# Altium footprint library F4SDR.PcbLib: 69 footprints (part 3 of 5)
Each footprint in its own frame and in the unit in brackets; x right, y up, seen from the top. Pads: shape width x height; smd on the part's side, far side on the other; paste and mask are expansions set on the pad; w line width, h text height; cw(c..) or ccw(c..) is an arc to the next point about the centre after c.
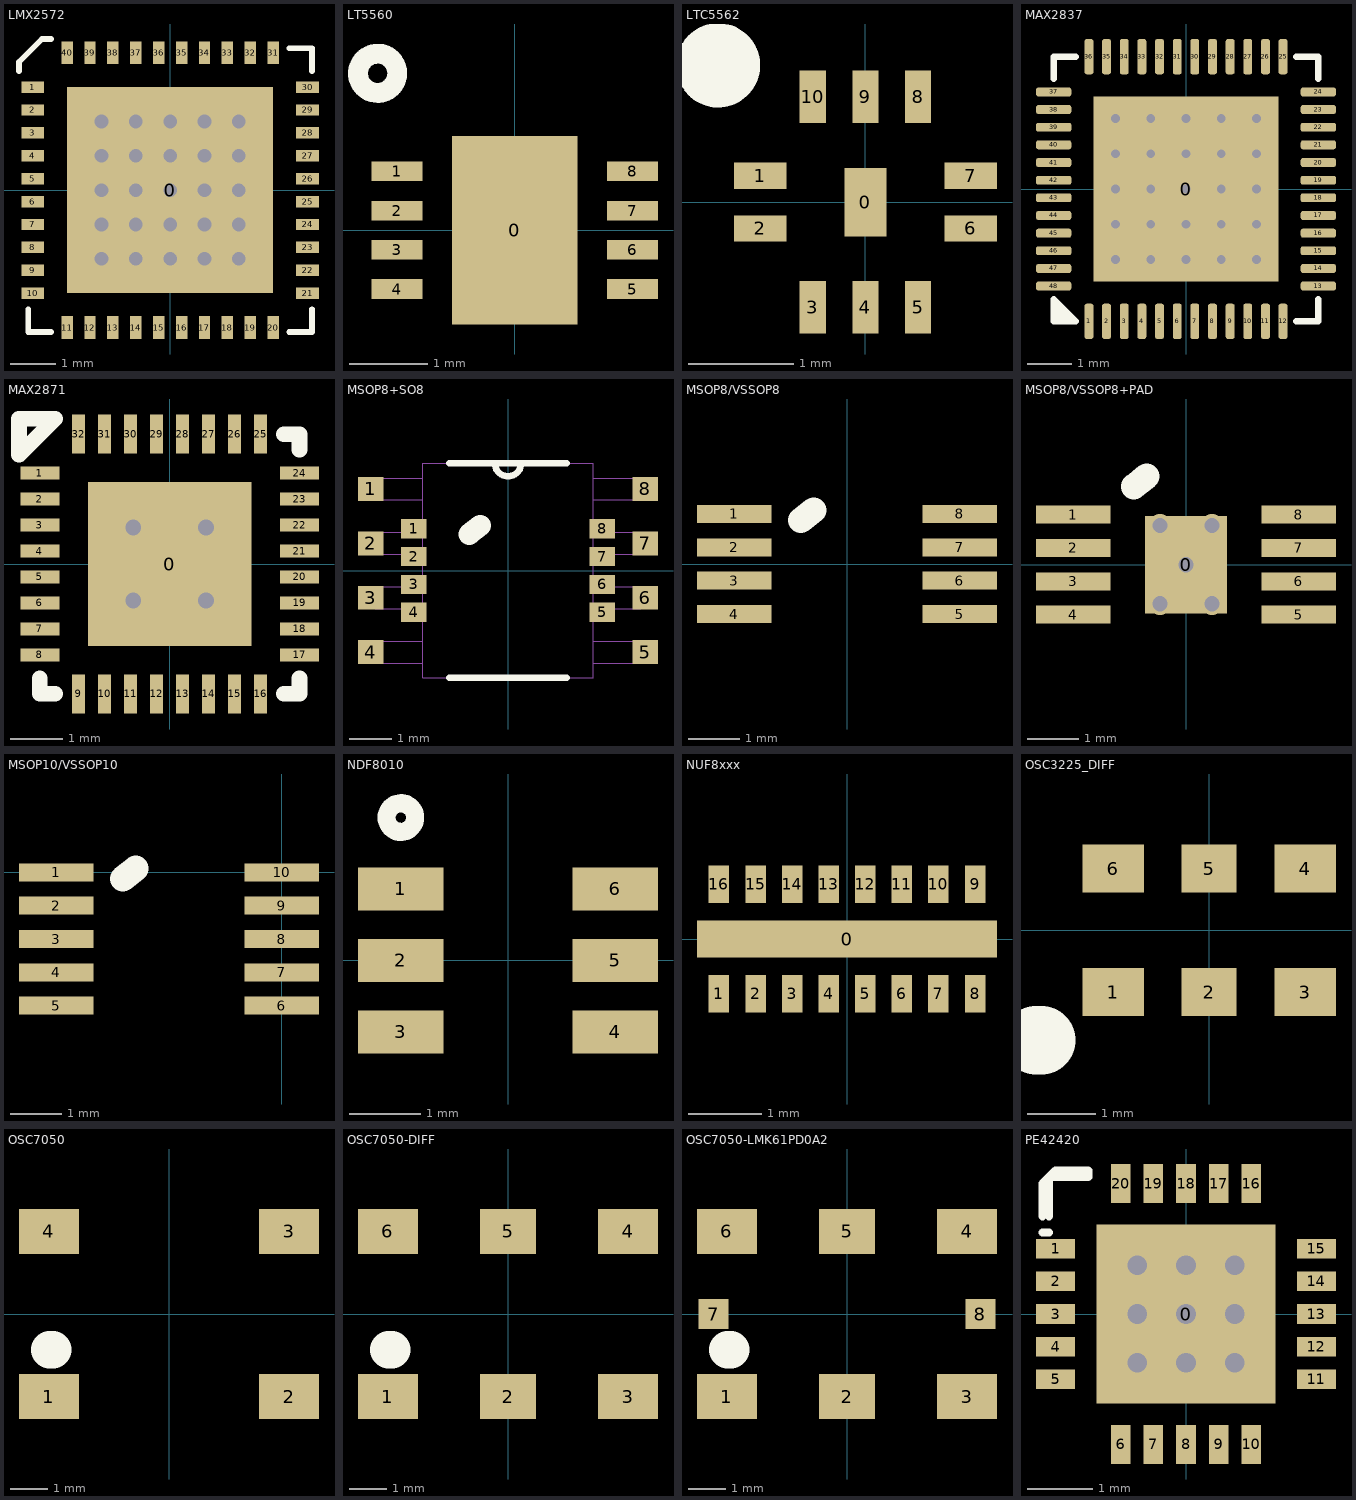
[diagram p2: the footprints below, top view; thin cyan lines are the x and y axes]

## LMX2572 [mm]
pads (41):
  rect 4.5x4.5 smd: 0(0,0)
  rect 0.5x0.25 smd: 1(-3,2.25) 2(-3,1.75) 3(-3,1.25) 4(-3,0.75) 5(-3,0.25) 6(-3,-0.25) 7(-3,-0.75) 8(-3,-1.25) 9(-3,-1.75) 10(-3,-2.25) 21(3,-2.25) 22(3,-1.75) 23(3,-1.25) 24(3,-0.75) 25(3,-0.25) 26(3,0.25) 27(3,0.75) 28(3,1.25) 29(3,1.75) 30(3,2.25)
  rect 0.25x0.5 smd: 11(-2.25,-3) 12(-1.75,-3) 13(-1.25,-3) 14(-0.75,-3) 15(-0.25,-3) 16(0.25,-3) 17(0.75,-3) 18(1.25,-3) 19(1.75,-3) 20(2.25,-3) 31(2.25,3) 32(1.75,3) 33(1.25,3) 34(0.75,3) 35(0.25,3) 36(-0.25,3) 37(-0.75,3) 38(-1.25,3) 39(-1.75,3) 40(-2.25,3)
via 0,0 diameter 0.5 hole 0.3
via 0,0.75 diameter 0.5 hole 0.3
via 0,1.5 diameter 0.5 hole 0.3
via 0.75,0 diameter 0.5 hole 0.3
via 0.75,0.75 diameter 0.5 hole 0.3
via 0.75,1.5 diameter 0.5 hole 0.3
via 1.5,1.5 diameter 0.5 hole 0.3
via 1.5,0.75 diameter 0.5 hole 0.3
via 1.5,0 diameter 0.5 hole 0.3
via 0,-0.75 diameter 0.5 hole 0.3
via 0,-1.5 diameter 0.5 hole 0.3
via -1.5,-1.5 diameter 0.5 hole 0.3
via -1.5,0 diameter 0.5 hole 0.3
via -1.5,1.5 diameter 0.5 hole 0.3
via 1.5,-1.5 diameter 0.5 hole 0.3
via 0.75,-1.5 diameter 0.5 hole 0.3
via 0.75,-0.75 diameter 0.5 hole 0.3
via 1.5,-0.75 diameter 0.5 hole 0.3
via -1.5,-0.75 diameter 0.5 hole 0.3
via -0.75,-0.75 diameter 0.5 hole 0.3
via -0.75,-1.5 diameter 0.5 hole 0.3
via -0.75,0 diameter 0.5 hole 0.3
via -0.75,0.75 diameter 0.5 hole 0.3
via -1.5,0.75 diameter 0.5 hole 0.3
via -0.75,1.5 diameter 0.5 hole 0.3
Top Overlay:
  lines w0.127: -3.3,2.6 -3.3,2.8 -2.8,3.3 -2.6,3.3 ; -3.1,-2.6 -3.1,-3.1 -2.6,-3.1 ; 2.6,-3.1 3.1,-3.1 3.1,-2.6 ; 2.6,3.1 3.1,3.1 3.1,2.6
3D body: height 1, standoff 0, extent -3,-3 3,3

## LT5560 [mm]
pads (9):
  rect 1.6x2.4 smd: 0(0,0)
  rect 0.65x0.25 smd: 1(-1.5,0.75) 2(-1.5,0.25) 3(-1.5,-0.25) 4(-1.5,-0.75) 5(1.5,-0.75) 6(1.5,-0.25) 7(1.5,0.25) 8(1.5,0.75)
Top Overlay:
  circle w0.254: c-1.75,2 r0.25
3D body: height 0.75, standoff 0, extent -1.5,-1.5 1.5,1.5

## LTC5562 [mm]
pads (11):
  rect 0.4x0.65 smd: 0(0,0)
  rect 0.5x0.25 smd: 1(-1,0.25) 2(-1,-0.25) 6(1,-0.25) 7(1,0.25)
  rect 0.25x0.5 smd: 3(-0.5,-1) 4(0,-1) 5(0.5,-1) 8(0.5,1) 9(0,1) 10(-0.5,1)
Top Overlay:
  circle w0.4: c-1.4,1.3 r0.2
3D body: height 0.75, standoff 0, extent -1,-1 1,1

## MAX2837 [mm]
pads (49):
  rect 4.2x4.2 smd: 0(0,0)
  rrect50% 0.2x0.8 smd: 1(-2.2,-3) 2(-1.8,-3) 3(-1.4,-3) 4(-1,-3) 5(-0.6,-3) 6(-0.2,-3) 7(0.2,-3) 8(0.6,-3) 9(1,-3) 10(1.4,-3) 11(1.8,-3) 12(2.2,-3) 25(2.2,3) 26(1.8,3) 27(1.4,3) 28(1,3) 29(0.6,3) 30(0.2,3) 31(-0.2,3) 32(-0.6,3) 33(-1,3) 34(-1.4,3) 35(-1.8,3) 36(-2.2,3)
  rrect50% 0.8x0.2 smd: 13(3,-2.2) 14(3,-1.8) 15(3,-1.4) 16(3,-1) 17(3,-0.6) 18(3,-0.2) 19(3,0.2) 20(3,0.6) 21(3,1) 22(3,1.4) 23(3,1.8) 24(3,2.2) 37(-3,2.2) 38(-3,1.8) 39(-3,1.4) 40(-3,1) 41(-3,0.6) 42(-3,0.2) 43(-3,-0.2) 44(-3,-0.6) 45(-3,-1) 46(-3,-1.4) 47(-3,-1.8) 48(-3,-2.2)
via 0,0 diameter 0.35 hole 0.2
via 0.8,0 diameter 0.35 hole 0.2
via 1.6,0 diameter 0.35 hole 0.2
via 1.6,-0.8 diameter 0.35 hole 0.2
via 0.8,-0.8 diameter 0.35 hole 0.2
via 0,-0.8 diameter 0.35 hole 0.2
via 0,-1.6 diameter 0.35 hole 0.2
via 0.8,-1.6 diameter 0.35 hole 0.2
via 1.6,-1.6 diameter 0.35 hole 0.2
via -0.8,-1.6 diameter 0.35 hole 0.2
via -1.6,-1.6 diameter 0.35 hole 0.2
via -1.6,-0.8 diameter 0.35 hole 0.2
via -0.8,-0.8 diameter 0.35 hole 0.2
via -0.8,0 diameter 0.35 hole 0.2
via -1.6,0 diameter 0.35 hole 0.2
via -1.6,0.8 diameter 0.35 hole 0.2
via -0.8,0.8 diameter 0.35 hole 0.2
via 0,0.8 diameter 0.35 hole 0.2
via 0.8,0.8 diameter 0.35 hole 0.2
via 1.6,0.8 diameter 0.35 hole 0.2
via 0.8,1.6 diameter 0.35 hole 0.2
via 0,1.6 diameter 0.35 hole 0.2
via -0.8,1.6 diameter 0.35 hole 0.2
via -1.6,1.6 diameter 0.35 hole 0.2
via 1.6,1.6 diameter 0.35 hole 0.2
Top Overlay:
  lines w0.152: -3,2.5 -3,3 -2.5,3 ; -2.9,-2.9 -2.9,-2.6 ; -2.75,-3 -2.75,-2.75 ; 2.5,-3 3,-3 3,-2.5 ; 2.5,3 3,3 3,2.5 ; -3,-3 -2.5,-3 -3,-2.5 -3,-3
3D body: height 0.75, standoff 0, extent -3,-3 3,3

## MAX2871 [mm]
pads (33):
  rect 3.15x3.15 smd: 0(0,0)
  rect 0.75x0.25 smd: 1(-2.5,1.75) 2(-2.5,1.25) 3(-2.5,0.75) 4(-2.5,0.25) 5(-2.5,-0.25) 6(-2.5,-0.75) 7(-2.5,-1.25) 8(-2.5,-1.75) 17(2.5,-1.75) 18(2.5,-1.25) 19(2.5,-0.75) 20(2.5,-0.25) 21(2.5,0.25) 22(2.5,0.75) 23(2.5,1.25) 24(2.5,1.75)
  rect 0.25x0.75 smd: 9(-1.75,-2.5) 10(-1.25,-2.5) 11(-0.75,-2.5) 12(-0.25,-2.5) 13(0.25,-2.5) 14(0.75,-2.5) 15(1.25,-2.5) 16(1.75,-2.5) 25(1.75,2.5) 26(1.25,2.5) 27(0.75,2.5) 28(0.25,2.5) 29(-0.25,2.5) 30(-0.75,2.5) 31(-1.25,2.5) 32(-1.75,2.5)
via -0.7,0.7 diameter 0.508 hole 0.305
via 0.7,0.7 diameter 0.508 hole 0.305
via 0.7,-0.7 diameter 0.508 hole 0.305
via -0.7,-0.7 diameter 0.508 hole 0.305
Top Overlay:
  lines w0.3: -2.5,-2.2 -2.5,-2.5 -2.2,-2.5 ; 2.2,-2.5 2.5,-2.5 2.5,-2.2 ; 2.2,2.5 2.5,2.5 2.5,2.2 ; -2.9,2.1 -2.2,2.8 -2.9,2.8 -2.9,2.1
3D body: height 0.7, standoff 0, extent -2.5,-2.5 2.5,2.5

## MSOP8+SO8 [mm]
height 1
pads (16):
  rect 0.6x0.559 smd: 1(-3.2,1.905) 2(-3.2,0.635) 3(-3.2,-0.635) 4(-3.2,-1.905) 5(3.2,-1.905) 6(3.2,-0.635) 7(3.2,0.635) 8(3.2,1.905)
  rect 0.6x0.45 smd: 1(-2.2,0.975) 2(-2.2,0.325) 3(-2.2,-0.325) 4(-2.2,-0.975) 5(2.2,-0.975) 6(2.2,-0.325) 7(2.2,0.325) 8(2.2,0.975)
Top Overlay:
  lines w0.152: -1.374,-2.502 1.374,-2.502 ; -1.374,2.502 1.374,2.502 ; -0.305,2.502 ccw(c0,2.502) 0.305,2.502
  lines w0.5: -0.9,0.85 -0.65,1.05
Mechanical 1:
  lines w0: -0.305,2.502 ccw(c0,2.502) 0.305,2.502 ; -3.099,-2.159 -1.994,-2.159 -1.994,-1.651 -3.099,-1.651 -3.099,-2.159 ; -3.099,-0.889 -1.994,-0.889 -1.994,-0.381 -3.099,-0.381 -3.099,-0.889 ; -3.099,0.381 -1.994,0.381 -1.994,0.889 -3.099,0.889 -3.099,0.381 ; -3.099,1.651 -1.994,1.651 -1.994,2.159 -3.099,2.159 -3.099,1.651 ; -1.994,-2.502 -1.994,2.502 1.994,2.502 1.994,-2.502 -1.994,-2.502 ; 1.994,-2.159 3.099,-2.159 3.099,-1.651 1.994,-1.651 1.994,-2.159 ; 1.994,-0.889 3.099,-0.889 3.099,-0.381 1.994,-0.381 1.994,-0.889 ; 1.994,0.381 3.099,0.381 3.099,0.889 1.994,0.889 1.994,0.381 ; 1.994,1.651 3.099,1.651 3.099,2.159 1.994,2.159 1.994,1.651
3D body "D0008A.stp": height 1.63, standoff 0, extent -3,-2.45 3,2.45

## MSOP8/VSSOP8 [mm]
height 1
pads (8):
  rect 1.45x0.35 smd: 1(-2.2,0.975) 2(-2.2,0.325) 3(-2.2,-0.325) 4(-2.2,-0.975) 5(2.2,-0.975) 6(2.2,-0.325) 7(2.2,0.325) 8(2.2,0.975)
Top Overlay:
  lines w0.5: -0.9,0.85 -0.65,1.05

## MSOP8/VSSOP8+PAD [mm]
height 1
pads (9):
  rect 1.6x1.9 smd: 0(0,0)
  rect 1.45x0.35 smd: 1(-2.2,0.975) 2(-2.2,0.325) 3(-2.2,-0.325) 4(-2.2,-0.975) 5(2.2,-0.975) 6(2.2,-0.325) 7(2.2,0.325) 8(2.2,0.975)
via 0,0 diameter 0.45 hole 0.3
via -0.508,0.762 diameter 0.45 hole 0.3
via 0.508,0.762 diameter 0.45 hole 0.3
via 0.508,-0.762 diameter 0.45 hole 0.3
via -0.508,-0.762 diameter 0.45 hole 0.3
Top Overlay:
  lines w0.5: -1.016,1.524 -0.766,1.724

## MSOP10/VSSOP10 [mm]
height 1
pads (10):
  rect 1.45x0.35 smd: 1(-4.4,0) 2(-4.4,-0.65) 3(-4.4,-1.3) 4(-4.4,-1.95) 5(-4.4,-2.6) 6(0,-2.6) 7(0,-1.95) 8(0,-1.3) 9(0,-0.65) 10(0,0)
Top Overlay:
  lines w0.5: -3.1,-0.125 -2.85,0.075

## NDF8010 [mm]
pads (6):
  rect 1.2x0.6 smd: 1(-1.5,1) 2(-1.5,0) 3(-1.5,-1) 4(1.5,-1) 5(1.5,0) 6(1.5,1)
Top Overlay:
  circle w0.254: c-1.5,2 r0.2
3D body: height 1.3, standoff 0, extent -1.5,-1.5 1.5,1.5

## NUF8xxx [mm]
pads (17):
  rect 4.1x0.5 smd: 0(0,0)
  rect 0.28x0.51 smd: 1(-1.75,-0.75) 2(-1.25,-0.75) 3(-0.75,-0.75) 4(-0.25,-0.75) 5(0.25,-0.75) 6(0.75,-0.75) 7(1.25,-0.75) 8(1.75,-0.75) 9(1.75,0.75) 10(1.25,0.75) 11(0.75,0.75) 12(0.25,0.75) 13(-0.25,0.75) 14(-0.75,0.75) 15(-1.25,0.75) 16(-1.75,0.75)
3D body: height 0.9, standoff 0, extent -2,-0.8 2,0.8

## OSC3225_DIFF [mm]
pads (6):
  rect 0.9x0.7 smd: 1(-1.4,-0.9) 3(1.4,-0.9) 4(1.4,0.9) 6(-1.4,0.9)
  rect 0.8x0.7 smd: 2(0,-0.9) 5(0,0.9)
Top Overlay:
  lines w1: -2.525,-1.6 -2.45,-1.6
3D body: height 1.05, standoff 0, extent -1.6,-1.27 1.6,1.27

## OSC7050 [mm]
pads (4):
  rect 1.6x1.2 smd: 1(-3.2,-2.2) 2(3.2,-2.2) 3(3.2,2.2) 4(-3.2,2.2)
Top Overlay:
  lines w1: -3.175,-0.95 -3.1,-0.95
3D body: height 1.5, standoff 0, extent -3.75,-2.5 3.75,2.5

## OSC7050-DIFF [mm]
pads (6):
  rect 1.6x1.2 smd: 1(-3.2,-2.2) 3(3.2,-2.2) 4(3.2,2.2) 6(-3.2,2.2)
  rect 1.5x1.2 smd: 2(0,-2.2) 5(0,2.2)
Top Overlay:
  lines w1: -3.175,-0.95 -3.1,-0.95
3D body: height 1.5, standoff 0, extent -3.75,-2.5 3.75,2.5

## OSC7050-LMK61PD0A2 [mm]
pads (8):
  rect 1.6x1.2 smd: 1(-3.2,-2.2) 3(3.2,-2.2) 4(3.2,2.2) 6(-3.2,2.2)
  rect 1.5x1.2 smd: 2(0,-2.2) 5(0,2.2)
  rect 0.8x0.8 smd: 7(-3.556,0) 8(3.556,0)
Top Overlay:
  lines w1: -3.175,-0.95 -3.1,-0.95
3D body: height 1.5, standoff 0, extent -3.75,-2.5 3.75,2.5

## PE42420 [mm]
pads (21):
  rect 2.75x2.75 smd: 0(0,0)
  rect 0.6x0.3 smd: 1(-2,1) 2(-2,0.5) 3(-2,0) 4(-2,-0.5) 5(-2,-1) 11(2,-1) 12(2,-0.5) 13(2,0) 14(2,0.5) 15(2,1)
  rect 0.3x0.6 smd: 6(-1,-2) 7(-0.5,-2) 8(0,-2) 9(0.5,-2) 10(1,-2) 16(1,2) 17(0.5,2) 18(0,2) 19(-0.5,2) 20(-1,2)
via 0.75,-0.75 diameter 0.45 hole 0.3
via 0,-0.75 diameter 0.45 hole 0.3
via -0.75,-0.75 diameter 0.45 hole 0.3
via -0.75,0 diameter 0.45 hole 0.3
via -0.75,0.75 diameter 0.45 hole 0.3
via 0,0.75 diameter 0.45 hole 0.3
via 0.75,0.75 diameter 0.45 hole 0.3
via 0.75,0 diameter 0.45 hole 0.3
via 0,0 diameter 0.45 hole 0.3
Top Overlay:
  lines w0.127: -2.2,1.25 -2.1,1.25 ; -2.2,1.5 -2.2,2 -2,2.2 -1.5,2.2 -1.5,2.1 -2.1,2.1 -2.1,1.5
3D body: height 0.85, standoff 0, extent -2,-2 2,2